# Altium schematic symbol library NEC_Control_22-04-2020.SchLib: 6 symbols
Pins are listed as number, name and electrical type; pins without a type are passive.

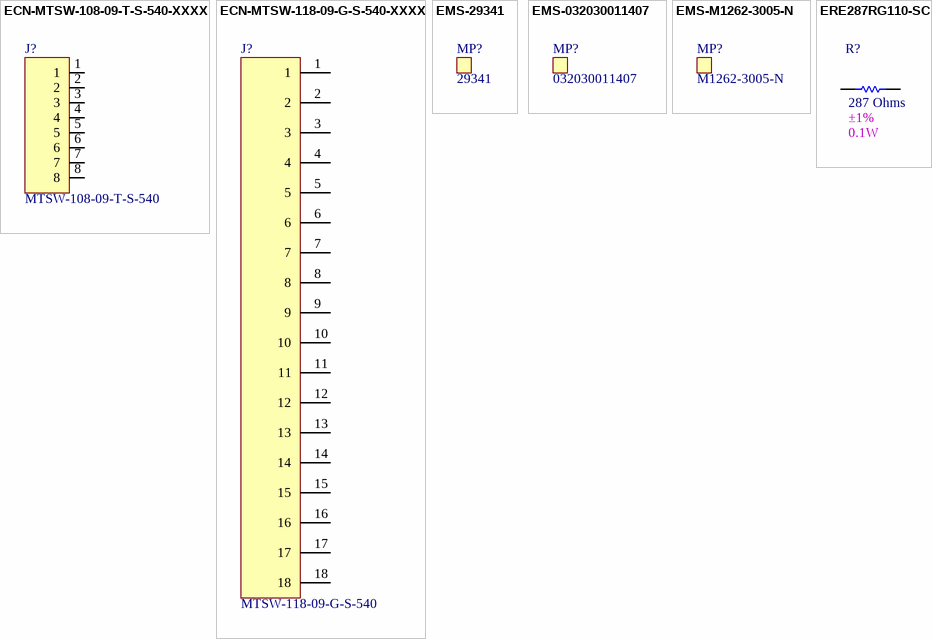
[diagram p0: symbols ECN-MTSW-108-09-T-S-540-XXXX to ERE287RG110-SC]

## ECN-MTSW-108-09-T-S-540-XXXX
designator J?, comment value MTSW-108-09-T-S-540  (hidden comment: CONN HEADER VERT 8POS 2.54MM)
Manufacturer: Samtec Inc.; Vendor Part Number: MTSW-108-09-T-S-540-ND; Internal Part Number: ECN-MTSW-108-09-T-S-540-XXXX; 1st Auxiliary Field: Male; Vendor Name: Digi-Key; Component Height (mm): 18.54mm; 2nd Auxiliary Field: 2.54mm; Manufacturer Part Number: MTSW-108-09-T-S-540; 3rd Auxiliary Field: 8Pos; Part Type: CONN HEADER VERT 8POS 2.54MM; 4th Auxiliary Field: *; Temp Co: *
footprint HDRV8W64P254_1X8_2032X254X1854P
pins: 1, 2, 3, 4, 5, 6, 7, 8

## ECN-MTSW-118-09-G-S-540-XXXX
designator J?, comment value MTSW-118-09-G-S-540  (hidden comment: CONN HEADER VERT 18POS 2.54MM)
Manufacturer: Samtec Inc.; Internal Part Number: ECN-MTSW-118-09-G-S-540-XXXX; Vendor Name: Digi-Key; Component Height (mm): 18.54mm; Temp Co: -55°C ~ 125°C; Manufacturer Part Number: MTSW-118-09-G-S-540; Vendor Part Number: MTSW-118-09-G-S-540; 1st Auxiliary Field: 18pos; 2nd Auxiliary Field: 2.54mm; 3rd Auxiliary Field: *; Part Type: CONN HEADER VERT 18POS 2.54MM; 4th Auxiliary Field: *
footprint HDRV18W64P254_1X18_4572X254X1854P
pins: 1, 2, 3, 4, 5, 6, 7, 8, 9, 10, 11, 12, 13, 14, 15, 16, 17, 18

## EMS-29341
designator MP?, comment value 29341  (hidden comment: MACH SCREW PAN SLOTTED M3X0.5)  (mechanical)
Vendor Part Number: 36-29341-ND; Manufacturer: Keystone Electronics; Internal Part Number: EMS-29341; 3rd Auxiliary Field: RoHS Compliant; Vendor Name: Digi-Key; Component Height (mm): 7.70 mm; Part Type: MACH SCREW PAN SLOTTED M3X0.5; 1st Auxiliary Field: M3x0.5; 4th Auxiliary Field: *; Temp Co: *; Manufacturer Part Number: 29341

## EMS-032030011407
designator MP?, comment value 032030011407  (hidden comment: WASHER FLAT M3 PLASTIC)  (mechanical)
Vendor Part Number: RPC3454-ND; Manufacturer: Essentra Components; Internal Part Number: EMS-032030011407; 3rd Auxiliary Field: RoHS Compliant; Vendor Name: Digi-Key; Component Height (mm): 1.50 MM; Part Type: WASHER FLAT M3 PLASTIC; 4th Auxiliary Field: *; Temp Co: *; Manufacturer Part Number: 032030011407

## EMS-M1262-3005-N
designator MP?, comment value M1262-3005-N  (hidden comment: 4_5_MM_HEX_FEMALE_STANDOFFS)  (mechanical)
Vendor Part Number: 1772-M1262-3005-N-ND; Manufacturer: RAF Electronic Hardware; Internal Part Number: EMS-M1262-3005-N; 1st Auxiliary Field: M3; 3rd Auxiliary Field: ROHS3 Compliant; Vendor Name: Digi-Key; Component Height (mm): 15.00mm; Part Type: 4_5_MM_HEX_FEMALE_STANDOFFS; 4th Auxiliary Field: *; Temp Co: *; Manufacturer Part Number: M1262-3005-N

## ERE287RG110-SC
designator R?, comment value 287 Ohms  1st Auxiliary Field: 0.1W  2nd Auxiliary Field: ±1%  (hidden comment: RES SMD 287 OHM 1% 1/10W 0603)
Manufacturer Part Number: ERJ-3EKF2870V; Manufacturer: Panasonic Electronic Components; Internal Part Number: ERE287RG110-SC; Vendor Part Number: P287HCT-ND; 3rd Auxiliary Field: ROHS3 Compliant; Component Height (mm): 0.55mm; Temp Co: -55°C ~ 155°C; Vendor Name: Digi-Key; Part Type: RES SMD 287 OHM 1% 1/10W 0603
footprint SMDR0603 (Footprint not found)
pins: 1, 2